# Altium schematic symbol library Meder.SchLib: 2 symbols
Pins are listed as number, name and electrical type; pins without a type are passive.

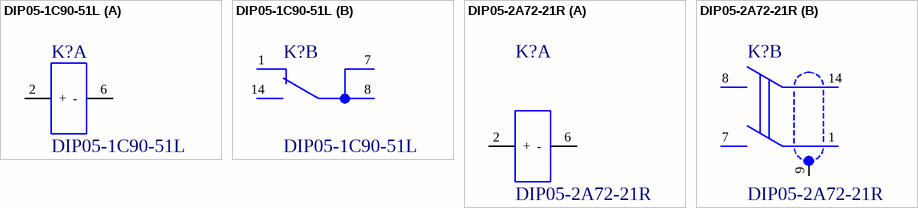
[diagram p0: symbols DIP05-1C90-51L to DIP05-2A72-21R]

## DIP05-1C90-51L
designator K?
Reed relay DIP05-1C90-51L; ValueSch: DIP05-1C90-51L
part A pins: 2 +, 6 -
part B pins: 1 A1, 7 A0, 8 B0, 14 B1

## DIP05-2A72-21R
designator K?
Reed Relay DIP05-2A72-21R; ValueSch: DIP05-2A72-21R
part A pins: 2 + (power), 6 - (power)
part B pins: 1 B0, 7 B1, 8 A1, 9 GND, 14 A0